# EAGLE library part PIN_HEADER_17_POSITIONS (library Nwazet.Go)
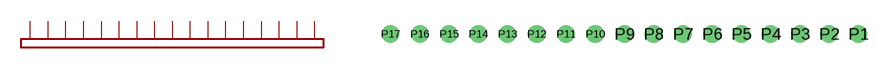
[diagram p20: symbol with the pads of PIN_HEADER_17_POSITIONS; footprint PIN_HEADER_17_POSITIONS]

Designator prefix -

## PIN_HEADER_17_POSITIONS  [PIN_HEADER_17_POSITIONS]
P1  P$1
P2  P$2
P3  P$3
P4  P$4
P5  P$5
P6  P$6
P7  P$7
P8  P$8
P9  P$9
P10  P$10
P11  P$11
P12  P$12
P13  P$13
P14  P$14
P15  P$15
P16  P$16
P17  P$17

## Footprint PIN_HEADER_17_POSITIONS (pad centres in mm)
drill 1.016: P1 19.05,0; P2 16.51,0; P3 13.97,0; P4 11.43,0; P5 8.89,0; P6 6.35,0; P7 3.81,0; P8 1.27,0; P9 -1.27,0; P10 -3.81,0; P11 -6.35,0; P12 -8.89,0; P13 -11.43,0; P14 -13.97,0; P15 -16.51,0; P16 -19.05,0; P17 -21.59,0